# Altium footprint library C2C5C10.PcbLib: 1 footprints
Each footprint in its own frame and in the unit in brackets; x right, y up, seen from the top. Pads: shape width x height; smd on the part's side, far side on the other; paste and mask are expansions set on the pad; w line width, h text height; cw(c..) or ccw(c..) is an arc to the next point about the centre after c.
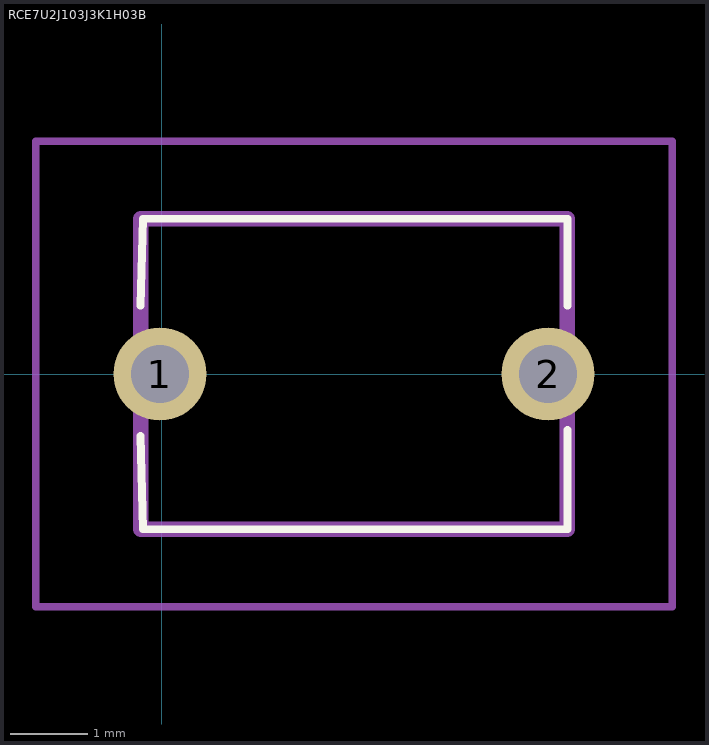
[diagram p0: the footprint, top view; thin cyan lines are the x and y axes]

## RCE7U2J103J3K1H03B [mm]
pads (2):
  round 1.2 hole 0.75: 1(-0.02,0) 2(4.98,0)
Top Overlay:
  lines w0.1: -0.27,-0.8 -0.24,-2 5.23,-2 5.23,-0.72 ; -0.27,0.88 -0.24,2 5.23,2 5.23,0.88
Mechanical 13:
  lines w0.2: -0.27,-2 -0.27,2 5.23,2 5.23,-2 -0.27,-2
Mechanical 15:
  lines w0.1: -1.62,-3 -1.62,3 6.58,3 6.58,-3 -1.62,-3
3D body "RDEC71H106K3K1H03B.stp": height 7.6, standoff -5, extent -0.293,-2 5.255,2